# EAGLE library part REG_AS1322 (library akita)
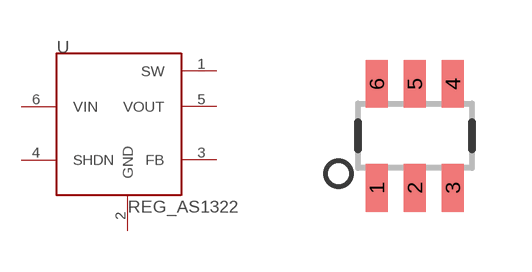
[diagram p80: symbol with the pads of SOT23-6; footprint SOT23-6]

Designator prefix -

## REG_AS1322  [SOT23-6]
1  SW
2  GND
3  FB
4  SHDN
5  VOUT
6  VIN

## Footprint SOT23-6 (pad centres in mm)
smd 0.55 x 1.2: 1 -0.95,-1.3; 2 0,-1.3; 3 0.95,-1.3; 4 0.95,1.3; 5 0,1.3; 6 -0.95,1.3